# Altium integrated library ESP32-CAM.IntLib: 1 symbol
Pins are listed as number, name and electrical type; pins without a type are passive.

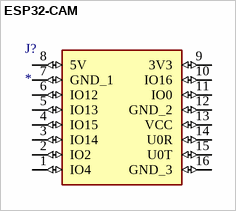
[diagram p0: symbol ESP32-CAM]

## ESP32-CAM
designator J?
ESP32 ESP32 Transceiver; 802.11 a/b/g/n (Wi-Fi, WiFi, WLAN), BluetoothÂ® Smart 4.x Low Energy (BLE) Evaluation Board; MF: AI-Thinker; MP: ESP32-CAM; Price: None; SnapEDA_Link: https://www.snapeda.com/parts/ESP32-CAM/AI-Thinker/view-part/?ref=snap; Check_prices: https://www.snapeda.com/parts/ESP32-CAM/AI-Thinker/view-part/?ref=eda; Package: None; Availability: Unavailable; Value: *
footprint ESP32-CAM
pins: 1 IO4 (io), 2 IO2 (io), 3 IO14 (io), 4 IO15 (io), 5 IO13 (io), 6 IO12 (io), 7 GND_1 (io), 8 5V (io), 9 3V3 (io), 10 IO16 (io), 11 IO0 (io), 12 GND_2 (io), 13 VCC (io), 14 U0R (io), 15 U0T (io), 16 GND_3 (io)